# Altium schematic symbol library SCH - CONNECTORS - WURTH - 7471267.SCHLIB: 1 symbol
Pins are listed as number, name and electrical type; pins without a type are passive.

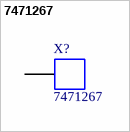
[diagram p0: symbol 7471267]

## 7471267
designator X?
WA-MTAB Mounting Tabs; Manufacturer: Wurth Elektronik; Manufacturer Part Number: 7471267; Mounting Technology: THT; Datasheet Link: https://www.we-online.de/katalog/datasheet/7471267.pdf; Height: 13.77mm; Supplier 1: Mouser; Supplier Part Number 1: 710-7471267
footprint 7471267 (Mounting Tabs & Tubular Cable Lugs)
pins: 1